# EAGLE library part DMG9926USD-13 (library RTR Main Library)
Dual N-Channel MOSFET
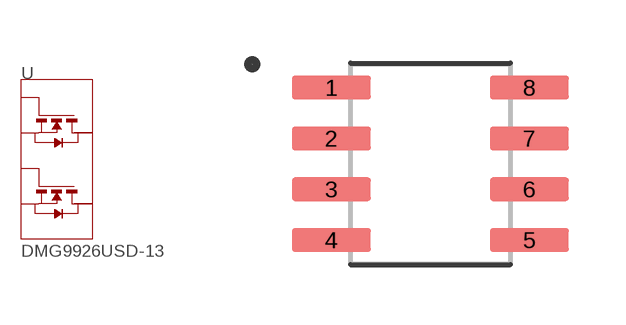
[diagram p5: symbol with the pads of SOIC127P600X175-8N; footprint SOIC127P600X175-8N]

Designator prefix -

## DMG9926USD-13  [SOIC127P600X175-8N]
1  S1  pas
2  G1  pas
3  S2  pas
4  G2  pas
5  D2  pas
6  D2  pas
7  D1  pas
8  D1  pas

## Footprint SOIC127P600X175-8N (pad centres in mm)
smd 1.97 x 0.59: 1 -2.475,1.905; 2 -2.475,0.635; 3 -2.475,-0.635; 4 -2.475,-1.905; 5 2.475,-1.905; 6 2.475,-0.635; 7 2.475,0.635; 8 2.475,1.905